# Altium schematic symbol library Schlib1.SchLib: 1 symbol
Pins are listed as number, name and electrical type; pins without a type are passive.

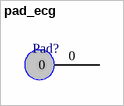
[diagram p0: symbol pad_ecg]

## pad_ecg
designator Pad?  (value not drawn)
footprint pad_ecg
pins: 0